# Altium schematic symbol library cis.SchLib: 3 symbols
Pins are listed as number, name and electrical type; pins without a type are passive.

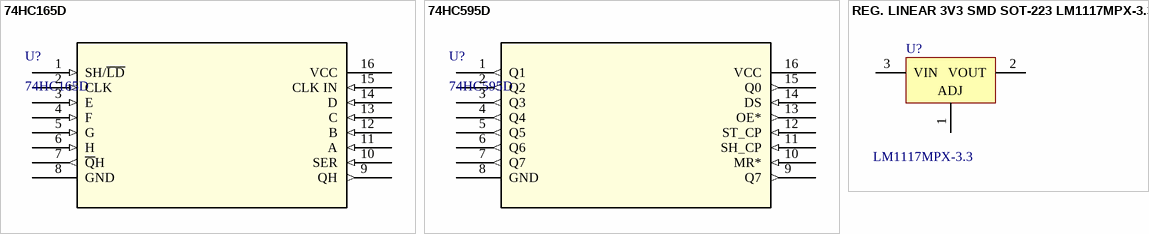
[diagram p0: symbols 74HC165D to REG. LINEAR 3V3 SMD SOT-223 LM1117MPX-3.3]

## 74HC165D
designator U?
8-Bit Parallel-Load Shift Registers; Vendor: Texas Instruments; Value: 74HC165D
footprint SOIC16_N (SOIC, 16-Leads, Body 9.9x3.9mm, Pitch 1.27mm, IPC Medium Density)
pins: 1 SH/~{LD} (in) "Shift or Load input, When High Data, shifted. When Low data is loaded from parallel inputs", 2 CLK (in) "Clock input", 3 E (in) "Parallel Input", 4 F (in) "Parallel Input", 5 G (in) "Parallel Input", 6 H (in) "Parallel Input", 7 ~{Q}H (out) "Complementary Serial Output", 8 GND (power) "Ground Pin", 9 QH (out) "Serial Output", 10 SER (in) "Serial Input", 11 A (in) "Parallel Input", 12 B (in) "Parallel Input", 13 C (in) "Parallel Input", 14 D (in) "Parallel Input", 15 CLK IN (in) "Clock Inhibit, when High No change in output", 16 VCC (power) "Power Pin"

## 74HC595D
designator U?
8-bit serial-in, serial or parallel-out shift register with output  latches; 3-state; Vendor: Nexperia; Value: 74HC595D
footprint SO16-N (SOT109-1-N)
pins: 1 Q1 (out), 2 Q2 (out), 3 Q3 (out), 4 Q4 (out), 5 Q5 (out), 6 Q6 (out), 7 Q7 (out), 8 GND (power), 9 Q7 (out), 10 MR* (in), 11 SH_CP (in), 12 ST_CP (in), 13 OE* (out), 14 DS (in), 15 Q0 (out), 16 VCC (power)

## REG. LINEAR 3V3 SMD SOT-223 LM1117MPX-3.3
designator U?  Valor: LM1117MPX-3.3  (hidden comment: REG. LINEAR 3V3 SMD SOT-223 LM1117MPX-3.3)
3V3 800-mA Low-Dropout Linear Regulator
footprint SOT223-4N - LM1117 (SOT223, 4-Leads, Body 6.5x3.5mm, Pitch 2.3mm, Lead Span 7mm, IPC Medium Density)
pins: 1 GND (power), 2 VOUT (power), 3 VIN (power)
text: ADJ